# EAGLE library part SI8420 (library my_ic)
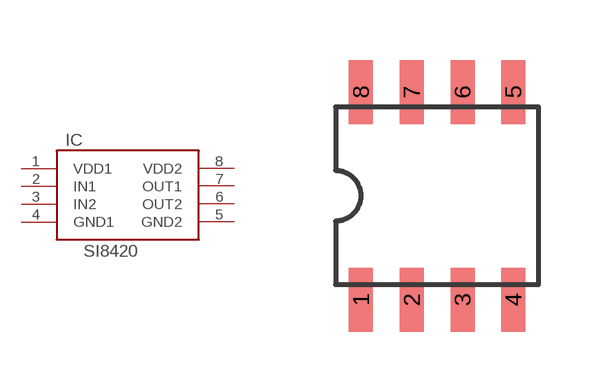
[diagram p22: symbol with the pads of SOP8; footprint SOP8]

Designator prefix IC

## SI8420  [SOP8]
1  VDD1  pwr
2  IN1  in
3  IN2  in
4  GND1  pwr
5  GND2  pwr
6  OUT2  out
7  OUT1  out
8  VDD2  pwr

## Footprint SOP8 (pad centres in mm)
SOP8 Source: http://www.rohm.com/products/databook/motor/pdf/bd623x_series-e.pdf
smd 0.6 x 1.6: 1 -1.905,-2.6; 2 -0.635,-2.6; 3 0.635,-2.6; 4 1.905,-2.6; 5 1.905,2.6; 6 0.635,2.6; 7 -0.635,2.6; 8 -1.905,2.6